# Altium footprint library UBCSolar.PCBLIB: 94 footprints (part 3 of 6)
Each footprint in its own frame and in the unit in brackets; x right, y up, seen from the top. Pads: shape width x height; smd on the part's side, far side on the other; paste and mask are expansions set on the pad; w line width, h text height; cw(c..) or ccw(c..) is an arc to the next point about the centre after c.
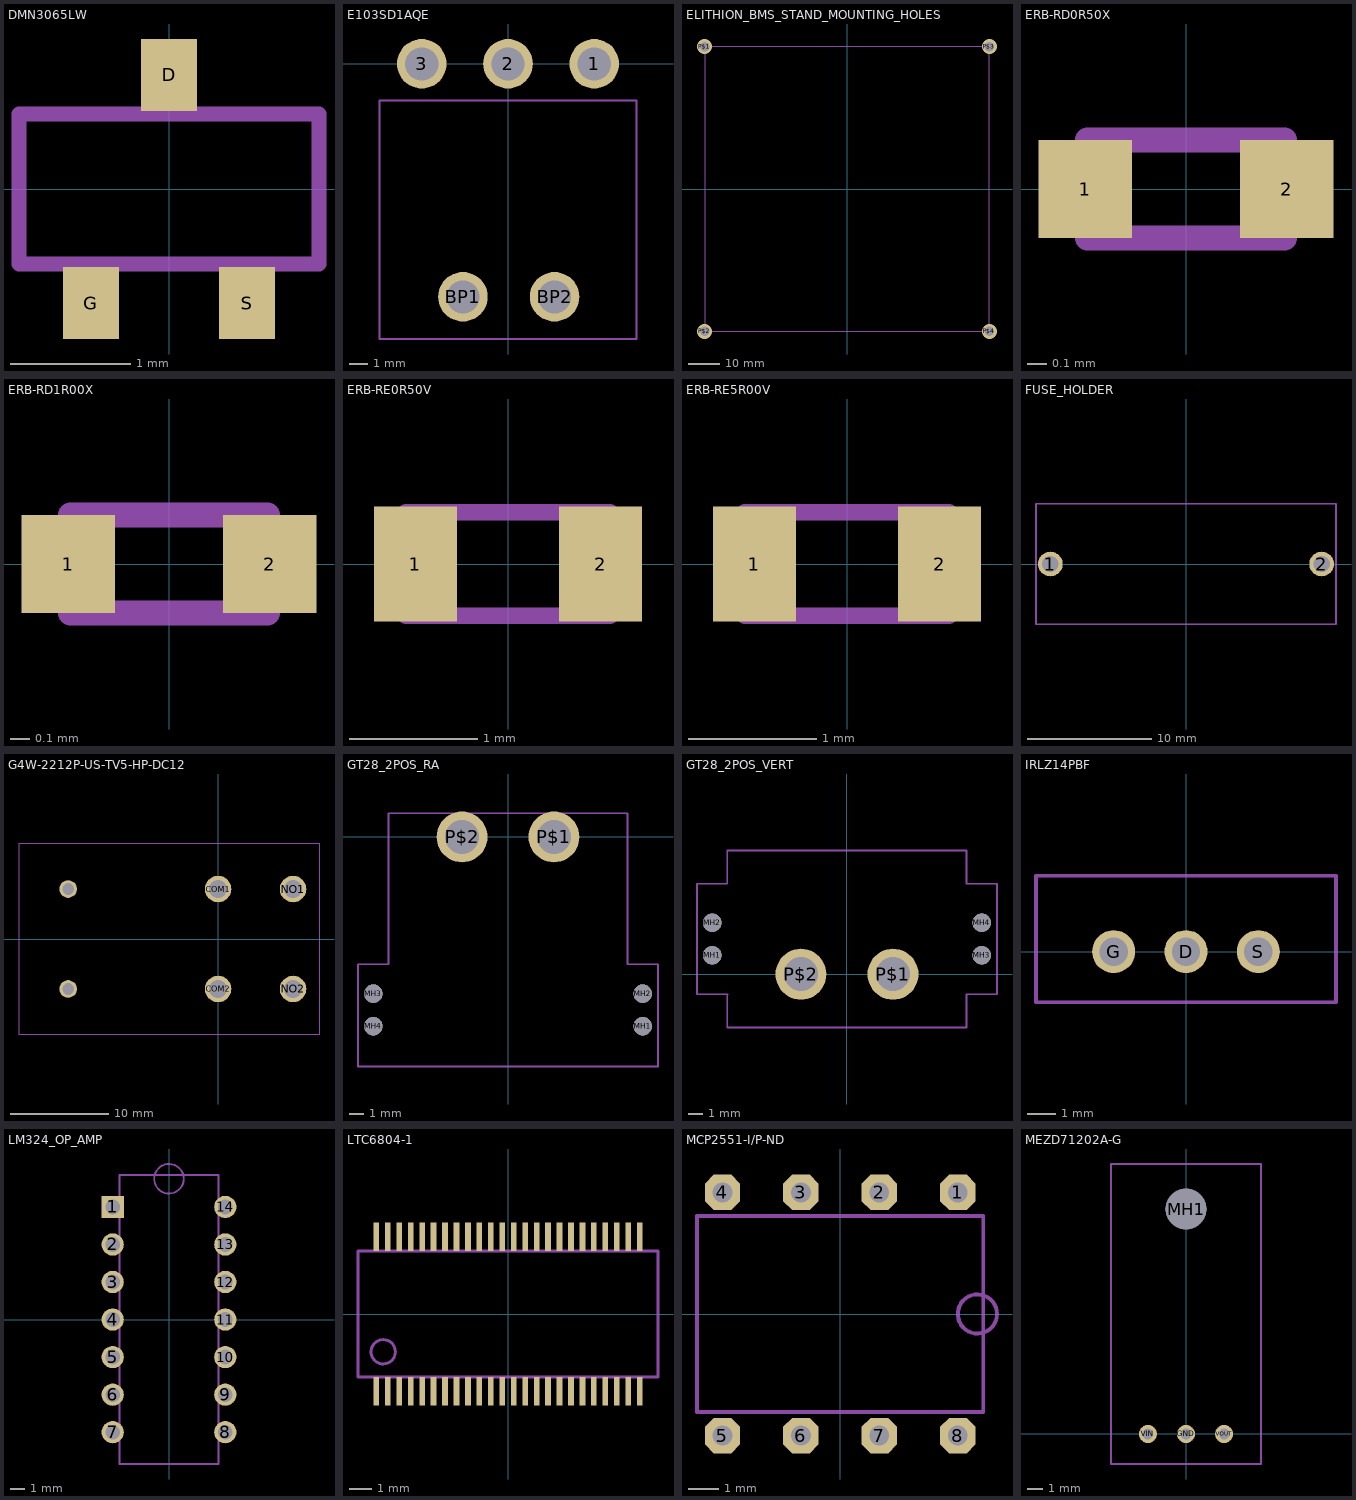
[diagram p2: the footprints below, top view; thin cyan lines are the x and y axes]

## DMN3065LW [mil]
pads (3):
  rect 18.5x23.62 smd: D(0,37.4) G(-25.59,-37.4) S(25.59,-37.4)
Top Assembly:
  lines w5: -49.21,-24.61 49.21,-24.61 49.21,24.61 -49.21,24.61 -49.21,-24.61

## E103SD1AQE [mm]
pads (5):
  round 2.7 / inner round 1.524 / far side round 2.7 hole 1.8: 1(4.7,0) 2(0,0) 3(-4.7,0) BP1(-2.46,-12.7) BP2(2.54,-12.7)
Top Assembly:
  lines w0.127: -7,-15 7,-15 7,-2 -7,-2 -7,-15

## ELITHION_BMS_STAND_MOUNTING_HOLES [mm]
pads (4):
  round 4.75 / inner round 1.524 / far side round 4.75 hole 3: P$1(-45,45) P$2(-45,-45) P$3(45,45) P$4(45,-45)
Top Assembly:
  lines w0.127: -45,-45 -45,45 45,45 45,-45 -45,-45

## ERB-RD0R50X [mil]
pads (2):
  rect 18.7x19.69 smd: 1(-20.18,0) 2(20.18,0)
Top Assembly:
  lines w5: -19.69,-9.84 19.69,-9.84 19.69,9.84 -19.69,9.84 -19.69,-9.84

## ERB-RD1R00X [mil]
pads (2):
  rect 18.7x19.69 smd: 1(-20.18,0) 2(20.18,0)
Top Assembly:
  lines w5: -19.69,-9.84 19.69,-9.84 19.69,9.84 -19.69,9.84 -19.69,-9.84

## ERB-RE0R50V [mm]
pads (2):
  rect 0.65x0.9 smd: 1(-0.725,0) 2(0.725,0)
Top Assembly:
  lines w0.127: -0.8,-0.405 0.8,-0.405 0.8,0.405 -0.8,0.405 -0.8,-0.405

## ERB-RE5R00V [mm]
pads (2):
  rect 0.65x0.9 smd: 1(-0.725,0) 2(0.725,0)
Top Assembly:
  lines w0.127: -0.8,-0.405 0.8,-0.405 0.8,0.405 -0.8,0.405 -0.8,-0.405

## FUSE_HOLDER [mil]
pads (2):
  round 77.95 / inner round 60 / far side round 77.95 hole 51.97: 1(-429.92,0) 2(429.92,0)
Top Assembly:
  lines w5: -475.59,-190.94 475.59,-190.94 475.59,190.94 -475.59,190.94 -475.59,-190.94

## G4W-2212P-US-TV5-HP-DC12 [mil]
pads (6):
  round 70.86 / inner round 60 / far side round 70.86 hole 47.24: COIL1(-600,200) COIL2(-600,-200)
  round 106.31 / inner round 60 / far side round 106.31 hole 70.87: COM1(0,200) COM2(0,-200) NO1(300,200) NO2(300,-200)
Top Assembly:
  lines w5: -796.85,-383.86 403.94,-383.86 403.94,383.86 -796.85,383.86 -796.85,-383.86

## GT28_2POS_RA [mil]
pads (6):
  round 51.18 hole 51.18 unplated: MH1(374.61,-526.38) MH2(374.61,-435.83) MH3(-374.61,-435.83) MH4(-374.61,-526.38)
  round 141.74 / inner round 60 / far side round 141.74 hole 94.49: P$1(127.95,0) P$2(-127.95,0)
Top Assembly:
  lines w5: -417.32,-638.58 417.32,-638.58 417.32,-354.33 332.68,-354.33 332.68,66.14 -332.68,66.14 -332.68,-354.33 -417.32,-354.33 -417.32,-638.58

## GT28_2POS_VERT [mm]
pads (6):
  round 1.3 hole 1.3 unplated: MH1(-9.515,1.335) MH2(-9.515,3.635) MH3(9.515,1.335) MH4(9.515,3.635)
  round 3.6 / inner round 1.524 / far side round 3.6 hole 2.4: P$1(3.25,0) P$2(-3.25,0)
Top Assembly:
  lines w0.127: -10.592,-1.413 -8.447,-1.413 -8.447,-1.426 ; -10.59,-1.415 -10.59,6.385 -8.455,6.385 -8.455,8.73 ; -8.45,-1.42 -8.45,-3.76 8.45,-3.76 8.45,-1.41 10.595,-1.41 ; -8.45,8.73 8.45,8.73 8.45,6.38 10.595,6.38 ; 10.59,-1.415 10.59,6.385

## IRLZ14PBF [mm]
pads (3):
  round 1.508 / inner round 1.524 / far side round 1.508 hole 1: D(0,0) G(-2.54,0) S(2.54,0)
Top Assembly:
  lines w0.127: -5.27,-1.78 5.27,-1.78 5.27,2.665 -5.27,2.665 -5.27,-1.78

## LM324_OP_AMP [mm]
pads (14):
  rect 1.508x1.508 / inner rect 1.524x1.524 / far side rect 1.508x1.508 hole 1: 1(-3.81,7.62)
  round 1.508 / inner round 1.524 / far side round 1.508 hole 1: 2(-3.81,5.08) 3(-3.81,2.54) 4(-3.81,0) 5(-3.81,-2.54) 6(-3.81,-5.08) 7(-3.81,-7.62) 8(3.81,-7.62) 9(3.81,-5.08) 10(3.81,-2.54) 11(3.81,0) 12(3.81,2.54) 13(3.81,5.08) 14(3.81,7.62)
Top Assembly:
  circle w0.127: c0,9.525 r1
  lines w0.127: -3.353,-9.772 3.353,-9.772 3.353,9.772 -3.353,9.772 -3.353,-9.772

## LTC6804-1 [mil]
pads (48):
  rect 9.84x49.21 smd: C0(206.69,132.87) C1(226.38,-132.87) C2(187.01,-132.87) C3(147.64,-132.87) C4(108.27,-132.87) C5(68.9,-132.87) C6(29.53,-132.87) C7(-9.84,-132.87) C8(-49.21,-132.87) C9(-88.58,-132.87) C10(-127.95,-132.87) C11(-167.32,-132.87) C12(-206.69,-132.87) CSB/IMA(-88.58,132.87) DRIVE(-29.53,132.87) GPIO1(187.01,132.87) GPIO2(167.32,132.87) GPIO3(147.64,132.87) GPIO4(88.58,132.87) GPIO5(68.9,132.87) IBIAS(-167.32,132.87) ICMP(-187.01,132.87) IMB(-206.69,132.87) IPB(-226.38,132.87) ISOMD(-68.9,132.87) S1(226.38,132.87) S2(206.69,-132.87) S3(167.32,-132.87) S4(127.95,-132.87) S5(88.58,-132.87) S6(49.21,-132.87) S7(9.84,-132.87) S8(-29.53,-132.87) S9(-68.9,-132.87) S10(-108.27,-132.87) S11(-147.64,-132.87) S12(-187.01,-132.87) SCK/IPA(-108.27,132.87) SDI/NC(-127.95,132.87) SDO/NC(-147.64,132.87) SWTEN(9.84,132.87) V+(-226.38,-132.87) V-1(108.27,132.87) V-2(127.95,132.87) VREF1(29.53,132.87) VREF2(49.21,132.87) VREG(-9.84,132.87) WDT(-49.21,132.87)
Top Assembly:
  circle w5: c-214.57,-64.96 r20.93
  lines w5: -257.87,-108.27 257.87,-108.27 257.87,108.27 -257.87,108.27 -257.87,-108.27

## MCP2551-I/P-ND [mil]
pads (8):
  oct 45.2x45.2 / inner oct 60x60 / far side oct 45.2x45.2 hole 25.2: 1(150,155) 2(50,155) 3(-50,155) 4(-150,155) 5(-150,-155) 6(-50,-155) 7(50,-155) 8(150,-155)
Assembly Top:
  lines w2.5: -182.5,-125 182.5,-125 182.5,125 -182.5,125 -182.5,-125
Top Assembly:
  circle w5: c175,0 r25
  lines w5: -182.5,-125 -182.5,125 182.5,125 182.5,-125 -182.5,-125

## MEZD71202A-G [mil]
pads (4):
  round 47.56 / inner round 60 / far side round 47.56 hole 27.56: GND(0,0) VIN(-100,0) VOUT(100,0)
  round 106.3 hole 106.3 unplated: MH1(0,590.55)
Top Assembly:
  lines w5: -196.85,-78.74 -196.85,708.66 196.85,708.66 196.85,-78.74 -196.85,-78.74